# Altium footprint library 732-2028-ND.PcbLib: 2 footprints
Each footprint in its own frame and in the unit in brackets; x right, y up, seen from the top. Pads: shape width x height; smd on the part's side, far side on the other; paste and mask are expansions set on the pad; w line width, h text height; cw(c..) or ccw(c..) is an arc to the next point about the centre after c.
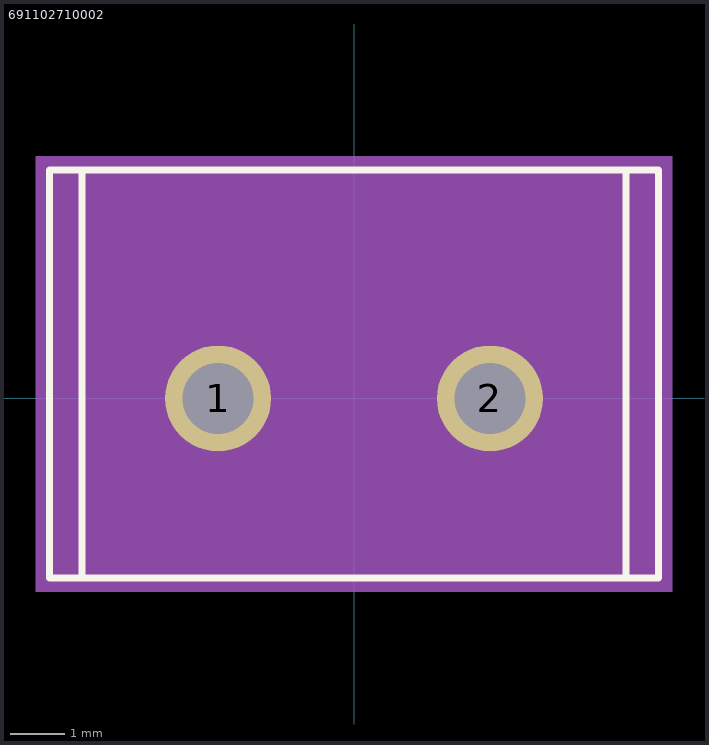
[diagram p0: the footprints below, top view; thin cyan lines are the x and y axes]

## 691102710002 [mm]
pads (2):
  round 1.95 hole 1.3: 1(-2.5,0) 2(2.5,0)
Top Overlay:
  lines w0.127: -5,-3.3 -5.6,-3.3 -5.6,4.2 -5,4.2 ; -5,-3.3 5,-3.3 ; -5,-3.3 -5,4.2 ; -5,4.2 5,4.2 ; 5,-3.3 5.6,-3.3 5.6,4.2 5,4.2 ; 5,-3.3 5,4.2
Mechanical 4:
  text "1" at -3.65,-2.65 h1.88
  text "1" at -3.65,-2.65 h1.88
Mechanical 16:
  region: -5.85,4.45 5.85,4.45 5.85,-3.55 -5.85,-3.55
3D body: height 0.12, standoff -21.13, extent -0.762,-3.369 -0.762,-3.369
3D body "Download_STP_691102710002 (rev1).stp": height 10.03, standoff -3.37, extent -5.981,-3.369 5.219,4.131
3D body: height 0.12, standoff -21.13, extent 5.08,6.604 5.08,6.604
3D body: height 0.12, standoff -21.13, extent 0,0 0,0
3D body: height 0.12, standoff -21.13, extent -0.127,1.397 -0.127,1.397
3D body: height 0.12, standoff -21.13, extent 0,0 0,0

## PCBComponent_1 [mm]